# Altium schematic symbol library AlbertaSat_Cust.SchLib: 3 symbols
Pins are listed as number, name and electrical type; pins without a type are passive.

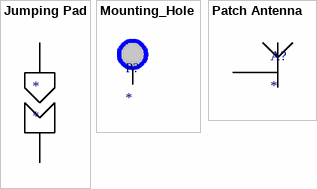
[diagram p0: symbols Jumping Pad to Patch Antenna]

## Jumping Pad
designator *
pins: 1 2, 2

## Mounting_Hole
designator P?
Mount with mechanical vias and appropriate washer diameter.
pins: 1 0

## Patch Antenna
designator A?
antenna
footprint ANTENNA CONNECT2
pins: 1, 2 in